# EAGLE library part CPL-USB-HUB-LAN9514 (library TinWhiskers)
USB Hub: 4-Hub, LAN9514; Package: 64-QFN; Datasheet: http://ww1.microchip.com/downloads/en/DeviceDoc/9514.pdf
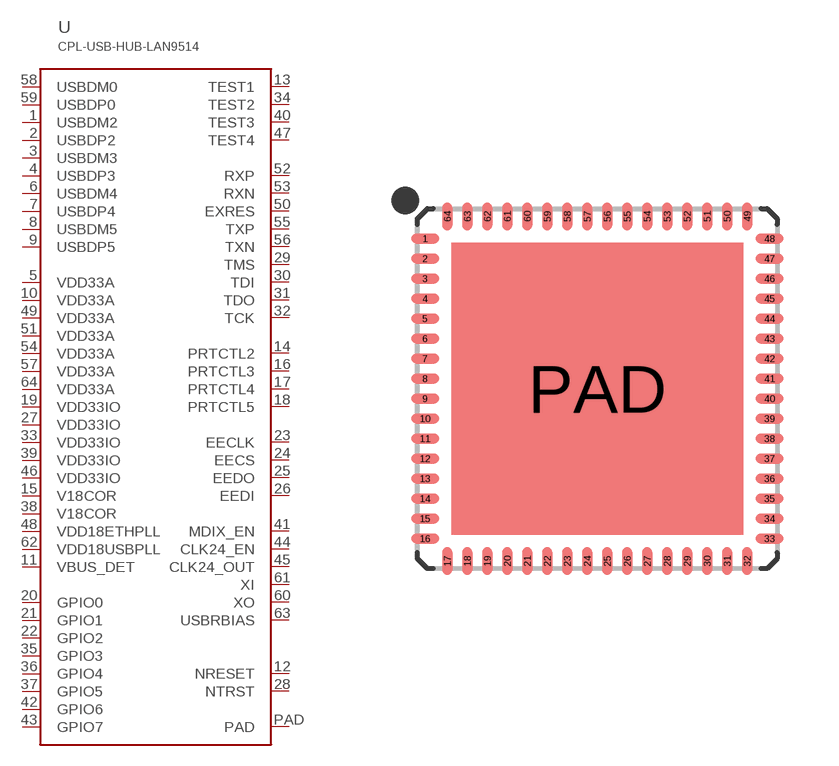
[diagram p25: symbol with the pads of 64-QFN; footprint 64-QFN]

Designator prefix U

## CPL-USB-HUB-LAN9514  [64-QFN]
1  USBDM2
2  USBDP2
3  USBDM3
4  USBDP3
5  VDD33A
6  USBDM4
7  USBDP4
8  USBDM5
9  USBDP5
10  VDD33A
11  VBUS_DET
12  NRESET
13  TEST1
14  PRTCTL2
15  V18COR
16  PRTCTL3
17  PRTCTL4
18  PRTCTL5
19  VDD33IO
20  GPIO0
21  GPIO1
22  GPIO2
23  EECLK
24  EECS
25  EEDO
26  EEDI
27  VDD33IO
28  NTRST
29  TMS
30  TDI
31  TDO
32  TCK
33  VDD33IO
34  TEST2
35  GPIO3
36  GPIO4
37  GPIO5
38  V18COR
39  VDD33IO
40  TEST3
41  MDIX_EN
42  GPIO6
43  GPIO7
44  CLK24_EN
45  CLK24_OUT
46  VDD33IO
47  TEST4
48  VDD18ETHPLL
49  VDD33A
50  EXRES
51  VDD33A
52  RXP
53  RXN
54  VDD33A
55  TXP
56  TXN
57  VDD33A
58  USBDM0
59  USBDP0
60  XO
61  XI
62  VDD18USBPLL
63  USBRBIAS
64  VDD33A
PAD  PAD

## Footprint 64-QFN (pad centres in mm)
64-QFN
smd 0.7 x 0.25: 1 -4.31,3.75; 2 -4.31,3.25; 3 -4.31,2.75; 4 -4.31,2.25; 5 -4.31,1.75; 6 -4.31,1.25; 7 -4.31,0.75; 8 -4.31,0.25; 9 -4.31,-0.25; 10 -4.31,-0.75; 11 -4.31,-1.25; 12 -4.31,-1.75; 13 -4.31,-2.25; 14 -4.31,-2.75; 15 -4.31,-3.25; 16 -4.31,-3.75; 33 4.31,-3.75; 34 4.31,-3.25; 35 4.31,-2.75; 36 4.31,-2.25; 37 4.31,-1.75; 38 4.31,-1.25; 39 4.31,-0.75; 40 4.31,-0.25; 41 4.31,0.25; 42 4.31,0.75; 43 4.31,1.25; 44 4.31,1.75; 45 4.31,2.25; 46 4.31,2.75; 47 4.31,3.25; 48 4.31,3.75
smd 0.25 x 0.7: 17 -3.75,-4.31; 18 -3.25,-4.31; 19 -2.75,-4.31; 20 -2.25,-4.31; 21 -1.75,-4.31; 22 -1.25,-4.31; 23 -0.75,-4.31; 24 -0.25,-4.31; 25 0.25,-4.31; 26 0.75,-4.31; 27 1.25,-4.31; 28 1.75,-4.31; 29 2.25,-4.31; 30 2.75,-4.31; 31 3.25,-4.31; 32 3.75,-4.31; 49 3.75,4.31; 50 3.25,4.31; 51 2.75,4.31; 52 2.25,4.31; 53 1.75,4.31; 54 1.25,4.31; 55 0.75,4.31; 56 0.25,4.31; 57 -0.25,4.31; 58 -0.75,4.31; 59 -1.25,4.31; 60 -1.75,4.31; 61 -2.25,4.31; 62 -2.75,4.31; 63 -3.25,4.31; 64 -3.75,4.31
smd 7.3 x 7.3: PAD 0,0